# Altium footprint library LM3940.PcbLib: 1 footprints
Each footprint in its own frame and in the unit in brackets; x right, y up, seen from the top. Pads: shape width x height; smd on the part's side, far side on the other; paste and mask are expansions set on the pad; w line width, h text height; cw(c..) or ccw(c..) is an arc to the next point about the centre after c.
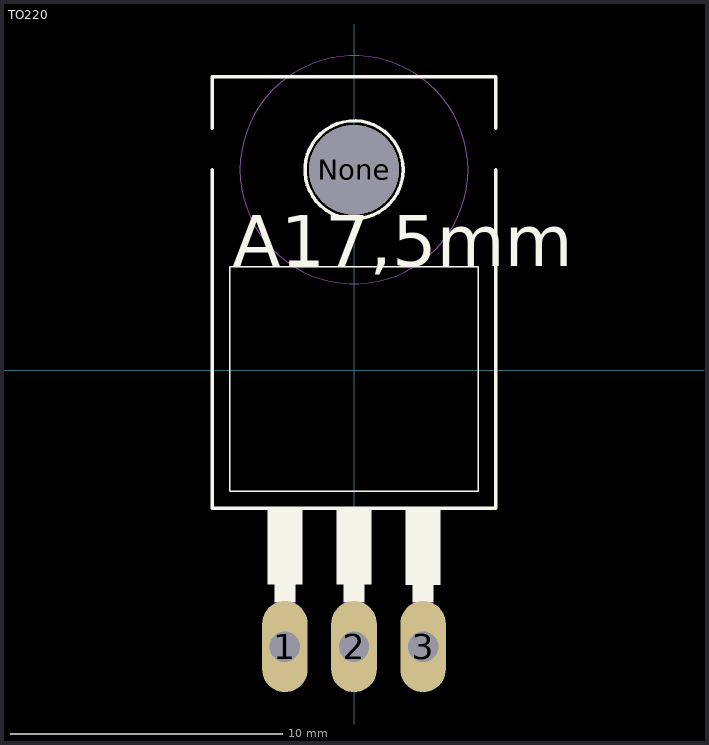
[diagram p0: the footprint, top view; thin cyan lines are the x and y axes]

## TO220 [mil]
pads (4):
  oval 66x132 hole 44: 1(-100,-400) 2(0,-400) 3(100,-400)
  round 130 hole 130 unplated: None(0,290)
Top Overlay:
  circle w5: c0,290 r71
  region: 75.07,-200 125,-200 125,-310.29 75.07,-310.29
  region: -25.01,-200 25,-200 25,-310.1 -25.01,-310.1
  region: -125.01,-200 -75,-200 -75,-310.03 -125.01,-310.03
  region: -115,-310 -85,-310 -85,-335 -115,-335
  region: -15.02,-310 15,-310 15,-335.33 -15.02,-335.33
  region: 85.05,-310 115,-310 115,-335.2 85.05,-335.2
  lines w2: -180,-175 -180,150 180,150 180,-175 -180,-175
  lines w5: -205,290 -205,-200 205,-200 205,290 ; -205,350 -205,425 205,425 205,350
  text "A17,5mm" at -175.17,150.31 h73.82
Mechanical 4:
  circle w0: c0,290 r165
  circle w0: c0,290 r165
  circle w0: c0,290 r165
  circle w0: c0,290 r165
  region: 85.04,-335 115,-335 115,-410.18 85.04,-410.18
  region: -15,-335 15,-335 15,-410.08 -15,-410.08
  region: -115.05,-335 -85,-335 -85,-410.19 -115.05,-410.19
  region: 85.04,-335 115,-335 115,-410.18 85.04,-410.18
  region: -15,-335 15,-335 15,-410.08 -15,-410.08
  region: -115.05,-335 -85,-335 -85,-410.19 -115.05,-410.19
  text "3" at 75.12,-160.08 h73.82
  text "2" at -25.01,-159.93 h73.82
  text "1" at -125.06,-159.91 h73.82
  text "3" at 75.12,-160.08 h73.82
  text "2" at -25.01,-159.93 h73.82
  text "1" at -125.06,-159.91 h73.82